# Altium footprint library SC_PDIP14.PcbLib: 1 footprints
Each footprint in its own frame and in the unit in brackets; x right, y up, seen from the top. Pads: shape width x height; smd on the part's side, far side on the other; paste and mask are expansions set on the pad; w line width, h text height; cw(c..) or ccw(c..) is an arc to the next point about the centre after c.
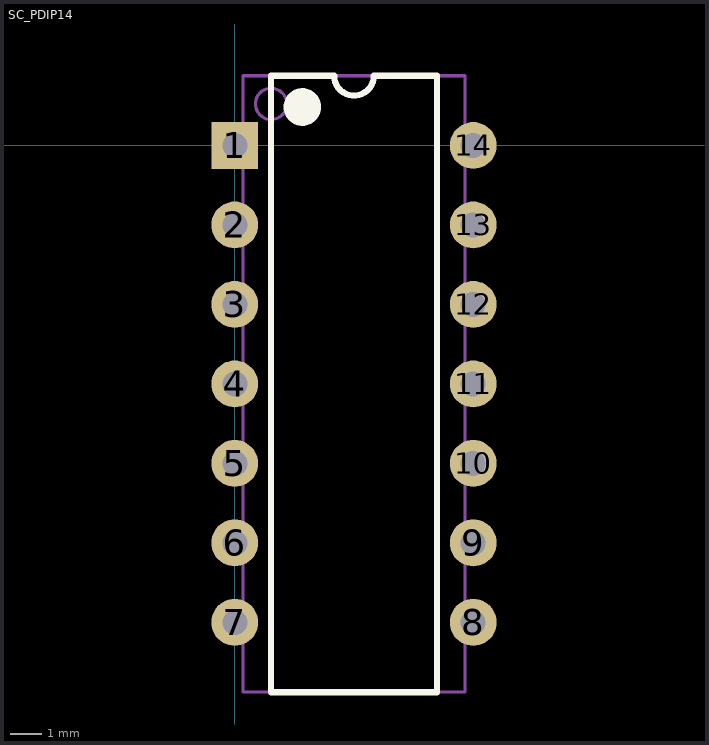
[diagram p0: the footprint, top view; thin cyan lines are the x and y axes]

## SC_PDIP14 [mm] "DIP, 14-Leads, Row Spacing 7.62mm, Pitch 2.54mm, Body 19.18x6.35mm"
height 5.08
pads (14):
  rect 1.5x1.5 hole 0.8: 1(0,0)
  round 1.5 hole 0.8: 2(0,-2.54) 3(0,-5.08) 4(0,-7.62) 5(0,-10.16) 6(0,-12.7) 7(0,-15.24) 8(7.62,-15.24) 9(7.62,-12.7) 10(7.62,-10.16) 11(7.62,-7.62) 12(7.62,-5.08) 13(7.62,-2.54) 14(7.62,0)
Top Overlay:
  circle w0.6: c2.16,1.23 r0.3
  lines w0.2: 1.16,-17.47 6.46,-17.47 6.46,2.23 4.445,2.23 cw(c3.81,2.23) 3.175,2.23 1.16,2.23 1.16,-17.47
Mechanical 1:
  circle w0.1: c1.16,1.33 r0.5
  lines w0.1: 0.26,-17.47 7.36,-17.47 7.36,2.23 0.26,2.23 0.26,-17.47
3D body: height 8.82, standoff 0.44, extent -0.106,-17.335 7.714,2.095